# Altium footprint library WE-XHMI.PcbLib: 17 footprints (part 1 of 2)
Each footprint in its own frame and in the unit in brackets; x right, y up, seen from the top. Pads: shape width x height; smd on the part's side, far side on the other; paste and mask are expansions set on the pad; w line width, h text height; cw(c..) or ccw(c..) is an arc to the next point about the centre after c.
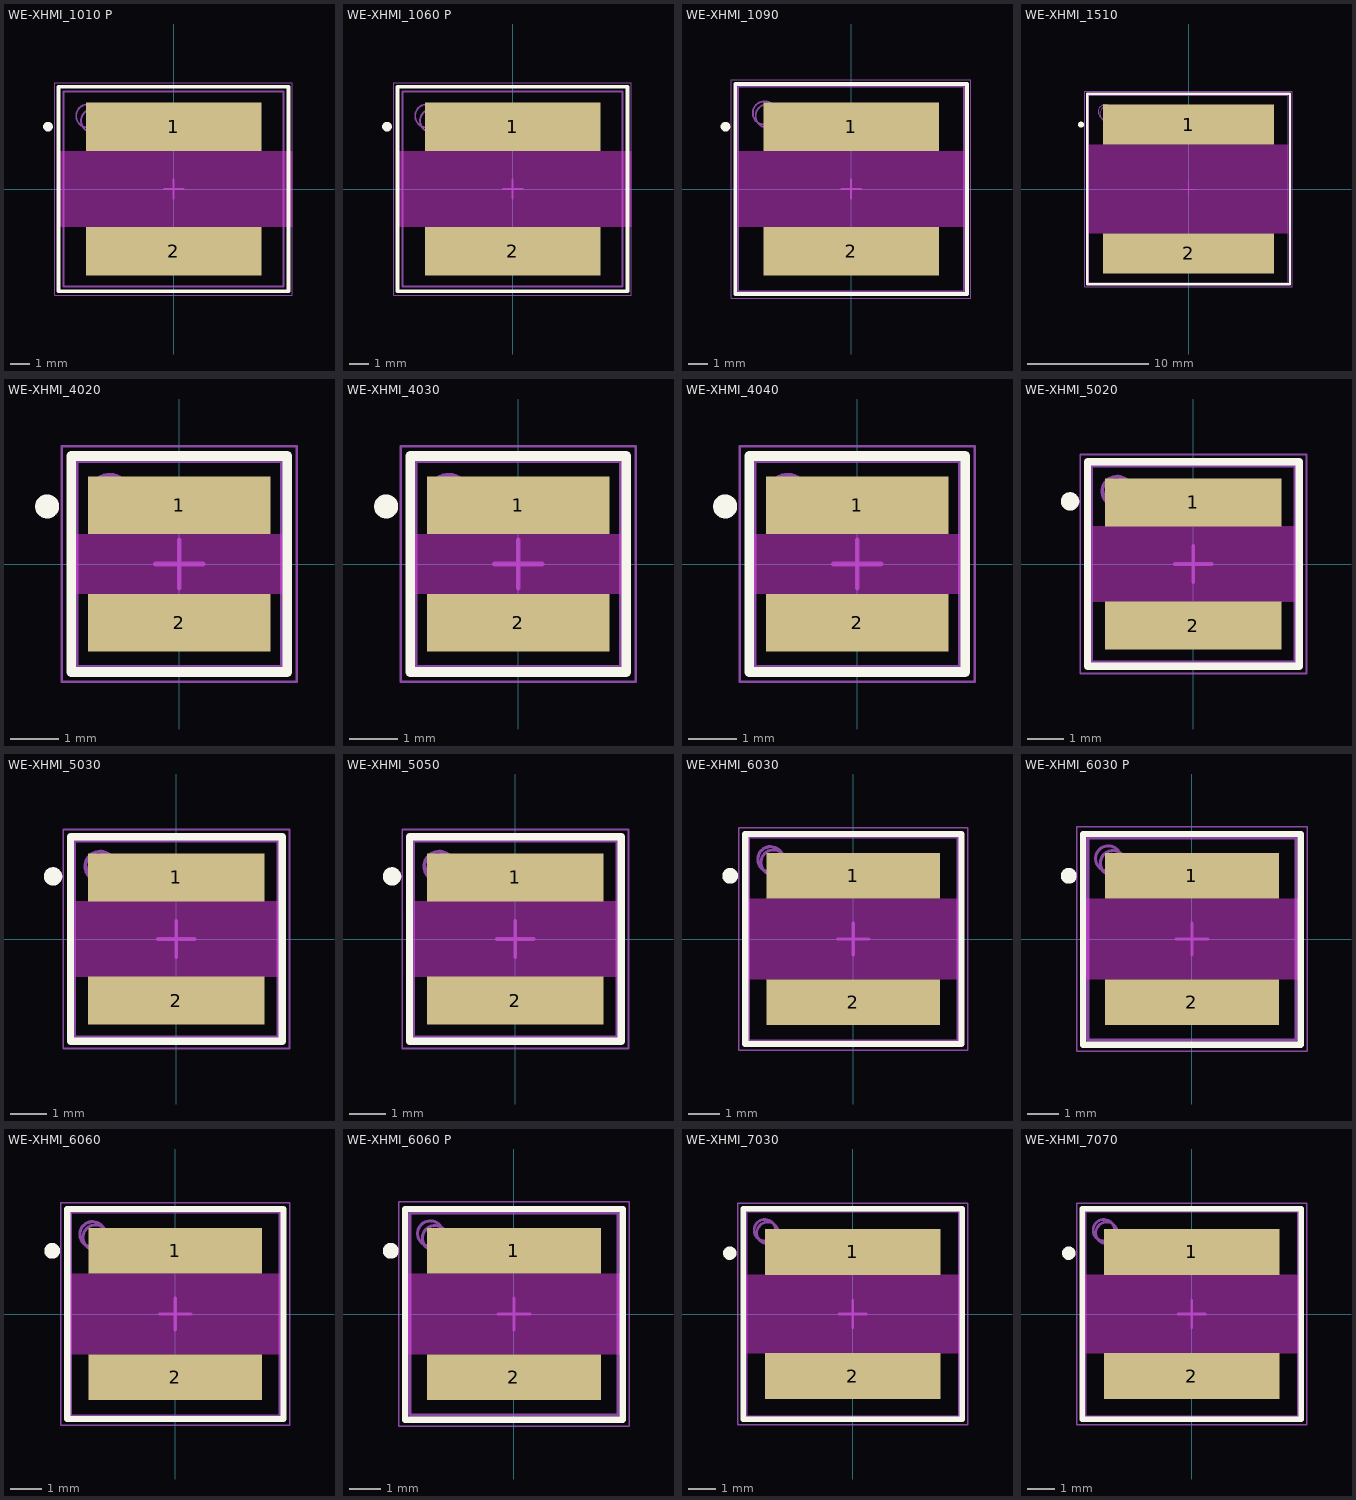
[diagram p0: the footprints below, top view; thin cyan lines are the x and y axes]

## WE-XHMI_1010 P [mm] "SMT Power Inductor, 2-Leads, body 11.30 x 10.00 mm"
height 10
pads (2):
  rect 9x2.5 smd: 1(0,3.2) 2(0,-3.2)
Top Layer keep-out:
  region: -5.9,1.95 6.1,1.95 6.1,-1.95 -5.9,-1.95
Top Overlay:
  circle w0.25: c-6.45,3.2 r0.125
  lines w0.2: -5.9,-5.25 5.9,-5.25 5.9,5.25 -5.9,5.25 -5.9,-5.25
Top Assembly:
  circle w0.1: c-4.4,3.75 r0.6
  lines w0.1: -5.9,-5.25 -5.9,5.25 5.9,5.25 5.9,-5.25 -5.9,-5.25
Top Designator:
  text ".Designator" at -3.647,-0.357 h1
Top 3D Body:
  circle w0.1: c-4.15,3.5 r0.6
  lines w0.1: -5.65,-5 -5.65,5 5.65,5 5.65,-5 -5.65,-5
Top Courtyard:
  lines w0.05: -6.1,-5.45 6.1,-5.45 6.1,5.45 -6.1,5.45 -6.1,-5.45
Top Component Center:
  lines w0.1: -0.5,0 0.5,0 ; 0,-0.5 0,0.5
3D body "WE-XHMI_1010 P.stp": height 10, standoff 0, extent -5.65,-5 5.65,5

## WE-XHMI_1060 P [mm] "SMT Power Inductor, 2-Leads, body 11.30 x 10.00 mm"
height 6
pads (2):
  rect 9x2.5 smd: 1(0,3.2) 2(0,-3.2)
Top Layer keep-out:
  region: -5.9,1.95 6.1,1.95 6.1,-1.95 -5.9,-1.95
Top Overlay:
  circle w0.25: c-6.45,3.2 r0.125
  lines w0.2: -5.9,-5.25 5.9,-5.25 5.9,5.25 -5.9,5.25 -5.9,-5.25
Top Assembly:
  circle w0.1: c-4.4,3.75 r0.6
  lines w0.1: -5.9,-5.25 -5.9,5.25 5.9,5.25 5.9,-5.25 -5.9,-5.25
Top Designator:
  text ".Designator" at -3.647,-0.357 h1
Top 3D Body:
  circle w0.1: c-4.15,3.5 r0.6
  lines w0.1: -5.65,-5 -5.65,5 5.65,5 5.65,-5 -5.65,-5
Top Courtyard:
  lines w0.05: -6.1,-5.45 6.1,-5.45 6.1,5.45 -6.1,5.45 -6.1,-5.45
Top Component Center:
  lines w0.1: -0.5,0 0.5,0 ; 0,-0.5 0,0.5
3D body "WE-XHMI_1060 P.stp": height 6, standoff 0, extent -5.65,-5 5.65,5

## WE-XHMI_1090 [mm] "SMT Power Inductor, 2-Leads, body 11.6x10.5mm"
height 8.8
pads (2):
  rect 9x2.5 smd: 1(0,3.2) 2(0,-3.2)
Top Layer keep-out:
  region: -5.8,1.95 5.8,1.95 5.8,-1.95 -5.8,-1.95
Top Overlay:
  circle w0.25: c-6.45,3.2 r0.125
  lines w0.2: -5.95,-5.4 -5.95,5.4 5.95,5.4 5.95,-5.4 -5.95,-5.4
Top Assembly:
  circle w0.1: c-4.45,3.9 r0.6
  lines w0.1: -5.95,-5.4 5.95,-5.4 5.95,5.4 -5.95,5.4 -5.95,-5.4
Top Designator:
  text ".Designator" at -3.647,-0.357 h1
Top 3D Body:
  circle w0.1: c-4.3,3.75 r0.6
  lines w0.1: -5.8,-5.25 5.8,-5.25 5.8,5.25 -5.8,5.25 -5.8,-5.25
Top Courtyard:
  lines w0.05: -6.15,-5.6 -6.15,5.6 6.15,5.6 6.15,-5.6 -6.15,-5.6
Top Component Center:
  lines w0.1: -0.5,0 0.5,0 ; 0,-0.5 0,0.5
3D body "74439369xxx.stp": height 8.8, standoff 0, extent -5.8,-5.25 5.8,5.25

## WE-XHMI_1510 [mm] "SMT Power Inductor, 2-Leads, body 16.4x15.4mm"
height 10
pads (2):
  rect 14.1x3.3 smd: 1(0,5.3) 2(0,-5.3)
Top Layer keep-out:
  region: -8.2,3.65 8.2,3.65 8.2,-3.65 -8.2,-3.65
Top Overlay:
  circle w0.25: c-8.85,5.3 r0.125
  lines w0.2: -8.35,-7.85 8.35,-7.85 8.35,7.85 -8.35,7.85 -8.35,-7.85
Top Assembly:
  circle w0.1: c-6.85,6.35 r0.6
  lines w0.1: -8.35,-7.85 8.35,-7.85 8.35,7.85 -8.35,7.85 -8.35,-7.85
Top Designator:
  text ".Designator" at -3.647,-0.357 h1
Top 3D Body:
  circle w0.1: c-6.7,6.2 r0.6
  lines w0.1: -8.2,-7.7 -8.2,7.7 8.2,7.7 8.2,-7.7 -8.2,-7.7
Top Courtyard:
  lines w0.05: -8.55,-8.05 8.55,-8.05 8.55,8.05 -8.55,8.05 -8.55,-8.05
Top Component Center:
  lines w0.1: -0.5,0 0.5,0 ; 0,-0.5 0,0.5
3D body "74439370xxx.stp": height 10, standoff 0, extent -8.2,-7.7 8.2,7.7

## WE-XHMI_4020 [mm] "SMD Power Inductor, body 4.30 x 4.30 mm"
height 2.2
pads (2):
  rect 3.8x1.2 smd: 1(0,1.225) 2(0,-1.225)
Top Layer keep-out:
  region: -2.15,0.625 2.15,0.625 2.15,-0.625 -2.15,-0.625
Top Overlay:
  circle w0.25: c-2.75,1.2 r0.125
  lines w0.2: -2.25,-2.25 -2.25,2.25 2.25,2.25 2.25,-2.25 -2.25,-2.25
Top Assembly:
  circle w0.1: c-1.45,1.45 r0.4
  lines w0.1: -2.25,-2.25 2.25,-2.25 2.25,2.25 -2.25,2.25 -2.25,-2.25
Top Designator:
  text ".Designator" at -3.647,-0.357 h1
Top 3D Body:
  circle w0.1: c-1.35,1.35 r0.4
  lines w0.1: -2.15,-2.15 -2.15,2.15 2.15,2.15 2.15,-2.15 -2.15,-2.15
Top Courtyard:
  lines w0.05: -2.45,-2.45 -2.45,2.45 2.45,2.45 2.45,-2.45 -2.45,-2.45
Top Component Center:
  lines w0.1: -0.5,0 0.5,0 ; 0,-0.5 0,0.5
3D body "74439390xxx_4020.stp": height 1.9, standoff 0, extent -2.15,-2.15 2.15,2.15

## WE-XHMI_4030 [mm] "SMD Power Inductor, body 4.30 x 4.30 mm"
height 3
pads (2):
  rect 3.8x1.2 smd: 1(0,1.225) 2(0,-1.225)
Top Layer keep-out:
  region: -2.15,0.625 2.15,0.625 2.15,-0.625 -2.15,-0.625
Top Overlay:
  circle w0.25: c-2.75,1.2 r0.125
  lines w0.2: -2.25,-2.25 -2.25,2.25 2.25,2.25 2.25,-2.25 -2.25,-2.25
Top Assembly:
  circle w0.1: c-1.45,1.45 r0.4
  lines w0.1: -2.25,-2.25 2.25,-2.25 2.25,2.25 -2.25,2.25 -2.25,-2.25
Top Designator:
  text ".Designator" at -3.647,-0.357 h1
Top 3D Body:
  circle w0.1: c-1.35,1.35 r0.4
  lines w0.1: -2.15,-2.15 -2.15,2.15 2.15,2.15 2.15,-2.15 -2.15,-2.15
Top Courtyard:
  lines w0.05: -2.45,-2.45 -2.45,2.45 2.45,2.45 2.45,-2.45 -2.45,-2.45
Top Component Center:
  lines w0.1: -0.5,0 0.5,0 ; 0,-0.5 0,0.5
3D body "74439390xxx_4030.stp": height 3.01, standoff 0.01, extent -2.15,-2.15 2.15,2.15

## WE-XHMI_4040 [mm] "SMD Power Inductor, body 4.30 x 4.30 mm"
height 4.1
pads (2):
  rect 3.8x1.2 smd: 1(0,1.225) 2(0,-1.225)
Top Layer keep-out:
  region: -2.15,0.625 2.15,0.625 2.15,-0.625 -2.15,-0.625
Top Overlay:
  circle w0.25: c-2.75,1.2 r0.125
  lines w0.2: -2.25,-2.25 2.25,-2.25 2.25,2.25 -2.25,2.25 -2.25,-2.25
Top Assembly:
  circle w0.1: c-1.45,1.45 r0.4
  lines w0.1: -2.25,-2.25 -2.25,2.25 2.25,2.25 2.25,-2.25 -2.25,-2.25
Top Designator:
  text ".Designator" at -3.647,-0.357 h1
Top 3D Body:
  circle w0.1: c-1.35,1.35 r0.4
  lines w0.1: -2.15,-2.15 2.15,-2.15 2.15,2.15 -2.15,2.15 -2.15,-2.15
Top Courtyard:
  lines w0.05: -2.45,-2.45 2.45,-2.45 2.45,2.45 -2.45,2.45 -2.45,-2.45
Top Component Center:
  lines w0.1: -0.5,0 0.5,0 ; 0,-0.5 0,0.5
3D body "74439390xxx_4040.stp": height 4.11, standoff 0.01, extent -2.15,-2.15 2.15,2.15

## WE-XHMI_5020 [mm] "SMD Power Inductor, body 5.55 x 5.35 mm"
height 2
pads (2):
  rect 4.8x1.3 smd: 1(0,1.675) 2(0,-1.675)
Top Layer keep-out:
  region: -2.75,1.025 2.75,1.025 2.75,-1.025 -2.75,-1.025
Top Overlay:
  circle w0.25: c-3.35,1.7 r0.125
  lines w0.2: -2.875,-2.775 2.875,-2.775 2.875,2.775 -2.875,2.775 -2.875,-2.775
Top Assembly:
  circle w0.1: c-2.075,1.975 r0.4
  lines w0.1: -2.875,-2.775 2.875,-2.775 2.875,2.775 -2.875,2.775 -2.875,-2.775
Top Designator:
  text ".Designator" at -3.647,-0.357 h1
Top 3D Body:
  circle w0.1: c-1.975,1.875 r0.4
  lines w0.1: -2.775,-2.675 -2.775,2.675 2.775,2.675 2.775,-2.675 -2.775,-2.675
Top Courtyard:
  lines w0.05: -3.075,-2.975 3.075,-2.975 3.075,2.975 -3.075,2.975 -3.075,-2.975
Top Component Center:
  lines w0.1: -0.5,0 0.5,0 ; 0,-0.5 0,0.5
3D body "5020.stp": height 2.01, standoff 0.01, extent -2.75,-2.675 2.75,2.675

## WE-XHMI_5030 [mm] "SMD Power Inductor, body 5.55 x 5.35 mm"
height 3
pads (2):
  rect 4.8x1.3 smd: 1(0,1.675) 2(0,-1.675)
Top Layer keep-out:
  region: -2.75,1.025 2.75,1.025 2.75,-1.025 -2.75,-1.025
Top Overlay:
  circle w0.25: c-3.35,1.7 r0.125
  lines w0.2: -2.875,-2.775 -2.875,2.775 2.875,2.775 2.875,-2.775 -2.875,-2.775
Top Assembly:
  circle w0.1: c-2.075,1.975 r0.4
  lines w0.1: -2.875,-2.775 -2.875,2.775 2.875,2.775 2.875,-2.775 -2.875,-2.775
Top Designator:
  text ".Designator" at -3.647,-0.357 h1
Top 3D Body:
  circle w0.1: c-1.975,1.875 r0.4
  lines w0.1: -2.775,-2.675 2.775,-2.675 2.775,2.675 -2.775,2.675 -2.775,-2.675
Top Courtyard:
  lines w0.05: -3.075,-2.975 -3.075,2.975 3.075,2.975 3.075,-2.975 -3.075,-2.975
Top Component Center:
  lines w0.1: -0.5,0 0.5,0 ; 0,-0.5 0,0.5
3D body "74439334xxx_5030.stp": height 3.11, standoff 0.11, extent -2.775,-2.675 2.775,2.675

## WE-XHMI_5050 [mm] "SMD Power Inductor, body 5.55 x 5.35 mm"
height 5.1
pads (2):
  rect 4.8x1.3 smd: 1(0,1.675) 2(0,-1.675)
Top Layer keep-out:
  region: -2.75,1.025 2.75,1.025 2.75,-1.025 -2.75,-1.025
Top Overlay:
  circle w0.25: c-3.35,1.7 r0.125
  lines w0.2: -2.875,-2.775 -2.875,2.775 2.875,2.775 2.875,-2.775 -2.875,-2.775
Top Assembly:
  circle w0.1: c-2.075,1.975 r0.4
  lines w0.1: -2.875,-2.775 -2.875,2.775 2.875,2.775 2.875,-2.775 -2.875,-2.775
Top Designator:
  text ".Designator" at -3.647,-0.357 h1
Top 3D Body:
  circle w0.1: c-1.975,1.875 r0.4
  lines w0.1: -2.775,-2.675 2.775,-2.675 2.775,2.675 -2.775,2.675 -2.775,-2.675
Top Courtyard:
  lines w0.05: -3.075,-2.975 -3.075,2.975 3.075,2.975 3.075,-2.975 -3.075,-2.975
Top Component Center:
  lines w0.1: -0.5,0 0.5,0 ; 0,-0.5 0,0.5
3D body "744393305xxx_5050.stp": height 5.22, standoff 0.12, extent -2.775,-2.675 2.775,2.675

## WE-XHMI_6030 [mm] "SMT Power Inductor, 2-Leads, body 6.65x6.45mm"
height 3
pads (2):
  rect 5.5x1.45 smd: 1(0,2) 2(0,-2)
Top Layer keep-out:
  region: -3.325,1.275 3.325,1.275 3.325,-1.275 -3.325,-1.275
Top Overlay:
  circle w0.25: c-3.9,2 r0.125
  lines w0.2: -3.425,-3.325 3.425,-3.325 3.425,3.325 -3.425,3.325 -3.425,-3.325
Top Assembly:
  circle w0.1: c-2.625,2.525 r0.4
  lines w0.1: -3.425,-3.325 3.425,-3.325 3.425,3.325 -3.425,3.325 -3.425,-3.325
Top Designator:
  text ".Designator" at -3.647,-0.357 h1
Top 3D Body:
  circle w0.1: c-2.525,2.425 r0.4
  lines w0.1: -3.325,-3.225 -3.325,3.225 3.325,3.225 3.325,-3.225 -3.325,-3.225
Top Courtyard:
  lines w0.05: -3.625,-3.525 3.625,-3.525 3.625,3.525 -3.625,3.525 -3.625,-3.525
Top Component Center:
  lines w0.1: -0.5,0 0.5,0 ; 0,-0.5 0,0.5
3D body "74439344xxx.stp": height 3, standoff 0, extent -3.325,-3.225 3.325,3.225

## WE-XHMI_6030 P [mm] "SMT Power Inductor, 2-Leads, body 6.60 x 6.40 mm"
height 3.1
pads (2):
  rect 5.5x1.45 smd: 1(0,2) 2(0,-2)
Top Layer keep-out:
  region: -3.45,1.275 3.45,1.275 3.45,-1.275 -3.45,-1.275
Top Overlay:
  circle w0.25: c-3.9,2 r0.125
  lines w0.2: -3.45,-3.35 -3.45,3.325 3.45,3.325 3.45,-3.35 -3.45,-3.35
Top Assembly:
  circle w0.1: c-2.65,2.55 r0.4
  lines w0.1: -3.45,-3.35 -3.45,3.35 3.45,3.35 3.45,-3.35 -3.45,-3.35
Top Designator:
  text ".Designator" at -3.647,-0.357 h1
Top 3D Body:
  circle w0.1: c-2.5,2.4 r0.4
  lines w0.1: -3.3,-3.2 -3.3,3.2 3.3,3.2 3.3,-3.2 -3.3,-3.2
Top Courtyard:
  lines w0.05: -3.65,-3.55 -3.65,3.55 3.65,3.55 3.65,-3.55 -3.65,-3.55
Top Component Center:
  lines w0.1: -0.5,0 0.5,0 ; 0,-0.5 0,0.5
3D body "WE-XHMI_6030 P.stp": height 3.1, standoff 0, extent -3.3,-3.2 3.3,3.2

## WE-XHMI_6060 [mm] "SMT Power Inductor, 2-Leads, body 6.65x6.45mm"
height 5.8
pads (2):
  rect 5.5x1.45 smd: 1(0,2) 2(0,-2)
Top Layer keep-out:
  region: -3.325,1.275 3.325,1.275 3.325,-1.275 -3.325,-1.275
Top Overlay:
  circle w0.25: c-3.9,2 r0.125
  lines w0.2: -3.425,-3.325 3.425,-3.325 3.425,3.325 -3.425,3.325 -3.425,-3.325
Top Assembly:
  circle w0.1: c-2.625,2.525 r0.4
  lines w0.1: -3.425,-3.325 3.425,-3.325 3.425,3.325 -3.425,3.325 -3.425,-3.325
Top Designator:
  text ".Designator" at -3.647,-0.357 h1
Top 3D Body:
  circle w0.1: c-2.525,2.425 r0.4
  lines w0.1: -3.325,-3.225 -3.325,3.225 3.325,3.225 3.325,-3.225 -3.325,-3.225
Top Courtyard:
  lines w0.05: -3.625,-3.525 3.625,-3.525 3.625,3.525 -3.625,3.525 -3.625,-3.525
Top Component Center:
  lines w0.1: -0.5,0 0.5,0 ; 0,-0.5 0,0.5
3D body "74439346xxx.stp": height 5.8, standoff 0, extent -3.325,-3.225 3.325,3.225

## WE-XHMI_6060 P [mm] "SMT Power Inductor, 2-Leads, body 6.60 x 6.40 mm"
height 6.1
pads (2):
  rect 5.5x1.45 smd: 1(0,2) 2(0,-2)
Top Layer keep-out:
  region: -3.45,1.275 3.45,1.275 3.45,-1.275 -3.45,-1.275
Top Overlay:
  circle w0.25: c-3.9,2 r0.125
  lines w0.2: -3.45,-3.35 3.45,-3.35 3.45,3.325 -3.45,3.325 -3.45,-3.35
Top Assembly:
  circle w0.1: c-2.65,2.55 r0.4
  lines w0.1: -3.45,-3.35 3.45,-3.35 3.45,3.35 -3.45,3.35 -3.45,-3.35
Top Designator:
  text ".Designator" at -3.647,-0.357 h1
Top 3D Body:
  circle w0.1: c-2.5,2.4 r0.4
  lines w0.1: -3.3,-3.2 3.3,-3.2 3.3,3.2 -3.3,3.2 -3.3,-3.2
Top Courtyard:
  lines w0.05: -3.65,-3.55 3.65,-3.55 3.65,3.55 -3.65,3.55 -3.65,-3.55
Top Component Center:
  lines w0.1: -0.5,0 0.5,0 ; 0,-0.5 0,0.5
3D body "WE-XHMI_6060 P.stp": height 6.1, standoff 0, extent -3.3,-3.2 3.3,3.2

## WE-XHMI_7030 [mm] "SMD Power Inductor, body 7.90 x 7.60 mm"
height 3
pads (2):
  rect 6.5x1.7 smd: 1(0,2.3) 2(0,-2.3)
Top Layer keep-out:
  region: -3.95,1.45 3.95,1.45 3.95,-1.45 -3.95,-1.45
Top Overlay:
  circle w0.25: c-4.55,2.25 r0.125
  lines w0.2: -4.05,-3.9 -4.05,3.9 4.05,3.9 4.05,-3.9 -4.05,-3.9
Top Assembly:
  circle w0.1: c-3.25,3.1 r0.4
  lines w0.1: -4.05,-3.9 -4.05,3.9 4.05,3.9 4.05,-3.9 -4.05,-3.9
Top Designator:
  text ".Designator" at -3.647,-0.357 h1
Top 3D Body:
  circle w0.1: c-3.15,3 r0.4
  lines w0.1: -3.95,-3.8 3.95,-3.8 3.95,3.8 -3.95,3.8 -3.95,-3.8
Top Courtyard:
  lines w0.05: -4.25,-4.1 -4.25,4.1 4.25,4.1 4.25,-4.1 -4.25,-4.1
Top Component Center:
  lines w0.1: -0.5,0 0.5,0 ; 0,-0.5 0,0.5
3D body "74439384xxx.stp": height 2.77, standoff 0.02, extent -3.95,-3.8 3.95,3.8

## WE-XHMI_7070 [mm] "SMD Power Inductor, body 7.90 x 7.60 mm"
height 7.1
pads (2):
  rect 6.5x1.7 smd: 1(0,2.3) 2(0,-2.3)
Top Layer keep-out:
  region: -3.95,1.45 3.95,1.45 3.95,-1.45 -3.95,-1.45
Top Overlay:
  circle w0.25: c-4.55,2.25 r0.125
  lines w0.2: -4.05,-3.9 -4.05,3.9 4.05,3.9 4.05,-3.9 -4.05,-3.9
Top Assembly:
  circle w0.1: c-3.25,3.1 r0.4
  lines w0.1: -4.05,-3.9 -4.05,3.9 4.05,3.9 4.05,-3.9 -4.05,-3.9
Top Designator:
  text ".Designator" at -3.647,-0.357 h1
Top 3D Body:
  circle w0.1: c-3.15,3 r0.4
  lines w0.1: -3.95,-3.8 3.95,-3.8 3.95,3.8 -3.95,3.8 -3.95,-3.8
Top Courtyard:
  lines w0.05: -4.25,-4.1 -4.25,4.1 4.25,4.1 4.25,-4.1 -4.25,-4.1
Top Component Center:
  lines w0.1: -0.5,0 0.5,0 ; 0,-0.5 0,0.5
3D body "74439387xxx.stp": height 7.41, standoff 0.02, extent -3.95,-3.8 3.95,3.8